# EAGLE library part RP2350B (library ds_ic_mcu)
RP2350 is a new family of microcontrollers from Raspberry Pi that offers significant enhancements over RP2040. Key features include: • Dual Cortex-M33 or Hazard3 processors at 150 MHz • 520 kB on-chip SRAM, in 10 independent banks • 8 kB of one-time-programmable storage (OTP) • Up to 16 MB of external QSPI flash/PSRAM via dedicated QSPI bus - Additional 16 MB flash/PSRAM accessible via optional second chip-select • On-chip switched-mode power supply to generate core voltage - Low-quiescent-current LDO mode can be enabled for sleep states • 2× on-chip PLLs for internal or external clock generation • Security features: - Optional boot signing, enforced by on-chip mask ROM, with key fingerprint in OTP - Protected OTP storage for optional boot decryption key - Global bus filtering based on Arm or RISC-V security/privilege levels - Peripherals, GPIOs and DMA channels individually assignable to security domains - Hardware mitigations for fault injection attacks - Hardware SHA-256 accelerator • Peripherals: - 2× UARTs - 2× SPI controllers - 2× I2C controllers - 24× PWM channels - USB 1.1 controller and PHY, with host and device support - 12× PIO state machines - 1× HSTX peripheral
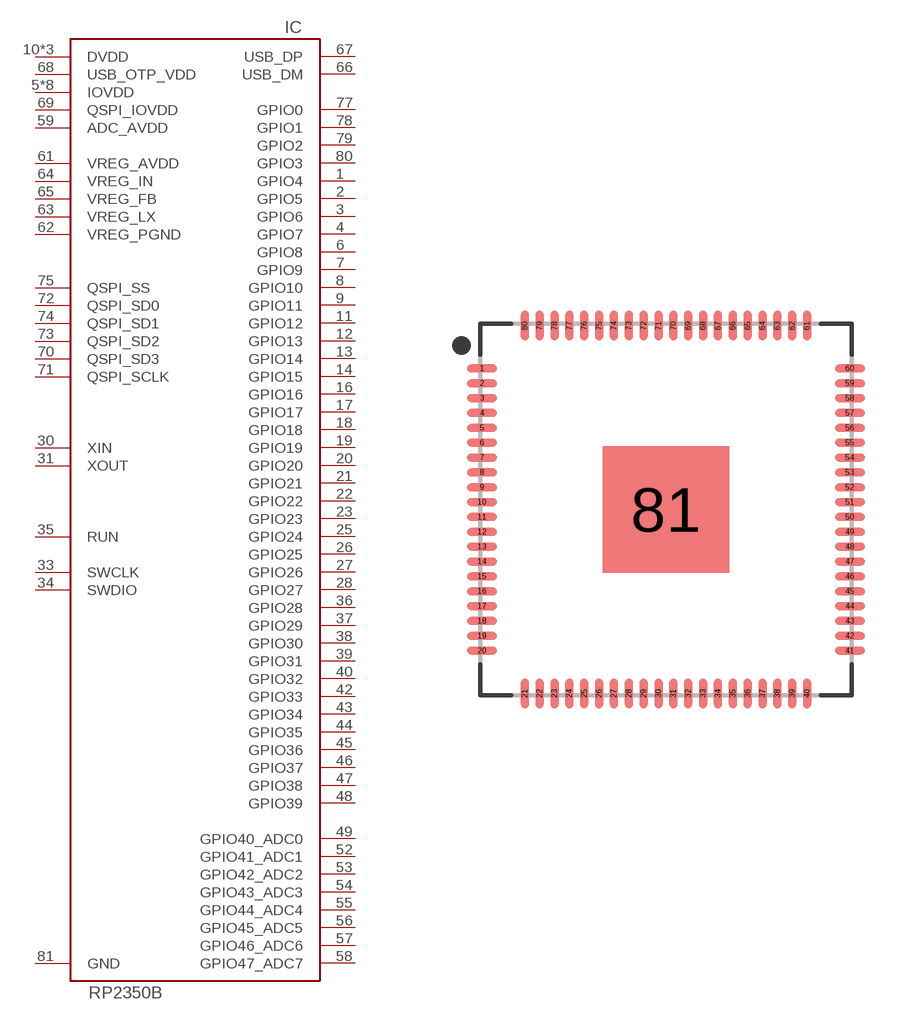
[diagram p12: symbol with the pads of QFN80-10X10; footprint QFN80-10X10]

Designator prefix IC

## RP2350BB  [QFN80-10X10]
1  GPIO4
2  GPIO5
3  GPIO6
4  GPIO7
5  IOVDD  pwr
6  GPIO8
7  GPIO9
8  GPIO10
9  GPIO11
10  DVDD  pwr
11  GPIO12
12  GPIO13
13  GPIO14
14  GPIO15
15  IOVDD  pwr
16  GPIO16
17  GPIO17
18  GPIO18
19  GPIO19
20  GPIO20
21  GPIO21
22  GPIO22
23  GPIO23
24  IOVDD  pwr
25  GPIO24
26  GPIO25
27  GPIO26
28  GPIO27
29  IOVDD  pwr
30  XIN  in
31  XOUT  out
32  DVDD  pwr
33  SWCLK
34  SWDIO
35  RUN
36  GPIO28
37  GPIO29
38  GPIO30
39  GPIO31
40  GPIO32
41  IOVDD  pwr
42  GPIO33
43  GPIO34
44  GPIO35
45  GPIO36
46  GPIO37
47  GPIO38
48  GPIO39
49  GPIO40_ADC0
50  IOVDD  pwr
51  DVDD  pwr
52  GPIO41_ADC1
53  GPIO42_ADC2
54  GPIO43_ADC3
55  GPIO44_ADC4
56  GPIO45_ADC5
57  GPIO46_ADC6
58  GPIO47_ADC7
59  ADC_AVDD  pwr
60  IOVDD  pwr
61  VREG_AVDD  pwr
62  VREG_PGND  pwr
63  VREG_LX  pwr
64  VREG_IN  pwr
65  VREG_FB  pwr
66  USB_DM
67  USB_DP
68  USB_OTP_VDD
69  QSPI_IOVDD  pwr
70  QSPI_SD3
71  QSPI_SCLK
72  QSPI_SD0
73  QSPI_SD2
74  QSPI_SD1
75  QSPI_SS
76  IOVDD  pwr
77  GPIO0
78  GPIO1
79  GPIO2
80  GPIO3
81  GND  pwr

## Footprint QFN80-10X10 (pad centres in mm)
80-QFN, 0.40 mm pitch, 10.00 X 10.00 X 0.85 mm body, 3.40 X 3.40 mm thermal pad 80-pin QFN package with 0.40 mm pitch with body size 10.00 X 10.00 X 0.85 mm and thermal pad size 3.40 X 3.40 mm
smd 0.811 x 0.22: 1 -4.951,3.8; 2 -4.951,3.4; 3 -4.951,3; 4 -4.951,2.6; 5 -4.951,2.2; 6 -4.951,1.8; 7 -4.951,1.4; 8 -4.951,1; 9 -4.951,0.6; 10 -4.951,0.2; 11 -4.951,-0.2; 12 -4.951,-0.6; 13 -4.951,-1; 14 -4.951,-1.4; 15 -4.951,-1.8; 16 -4.951,-2.2; 17 -4.951,-2.6; 18 -4.951,-3; 19 -4.951,-3.4; 20 -4.951,-3.8; 41 4.951,-3.8; 42 4.951,-3.4; 43 4.951,-3; 44 4.951,-2.6; 45 4.951,-2.2; 46 4.951,-1.8; 47 4.951,-1.4; 48 4.951,-1; 49 4.951,-0.6; 50 4.951,-0.2; 51 4.951,0.2; 52 4.951,0.6; 53 4.951,1; 54 4.951,1.4; 55 4.951,1.8; 56 4.951,2.2; 57 4.951,2.6; 58 4.951,3; 59 4.951,3.4; 60 4.951,3.8
smd 0.22 x 0.811: 21 -3.8,-4.951; 22 -3.4,-4.951; 23 -3,-4.951; 24 -2.6,-4.951; 25 -2.2,-4.951; 26 -1.8,-4.951; 27 -1.4,-4.951; 28 -1,-4.951; 29 -0.6,-4.951; 30 -0.2,-4.951; 31 0.2,-4.951; 32 0.6,-4.951; 33 1,-4.951; 34 1.4,-4.951; 35 1.8,-4.951; 36 2.2,-4.951; 37 2.6,-4.951; 38 3,-4.951; 39 3.4,-4.951; 40 3.8,-4.951; 61 3.8,4.951; 62 3.4,4.951; 63 3,4.951; 64 2.6,4.951; 65 2.2,4.951; 66 1.8,4.951; 67 1.4,4.951; 68 1,4.951; 69 0.6,4.951; 70 0.2,4.951; 71 -0.2,4.951; 72 -0.6,4.951; 73 -1,4.951; 74 -1.4,4.951; 75 -1.8,4.951; 76 -2.2,4.951; 77 -2.6,4.951; 78 -3,4.951; 79 -3.4,4.951; 80 -3.8,4.951
smd 3.4 x 3.4: 81 0,0